# EAGLE library part MAX3491E (library greg-IC)
Maxim MAX3491 RS-485/RS-422 Transceiver Devices in the MAX3483E family (MAX3483E/MAX3485E/ MAX3486E/MAX3488E/MAX3490E/MAX3491E) are ±15kV ESD-protected, +3.3V, low-power transceivers for RS-485 and RS-422 communications. Each device contains one driver and one receiver. The MAX3483E and MAX3488E feature slew-rate-limited drivers that minimize EMI and reduce reflections caused by improperly terminated cables, allowing error-free data transmission at data rates up to 250kbps. The partially slew-rate-limited MAX3486E transmits up to 2.5Mbps. The MAX3485E, MAX3490E, and MAX3491E transmit at up to 12Mbps.
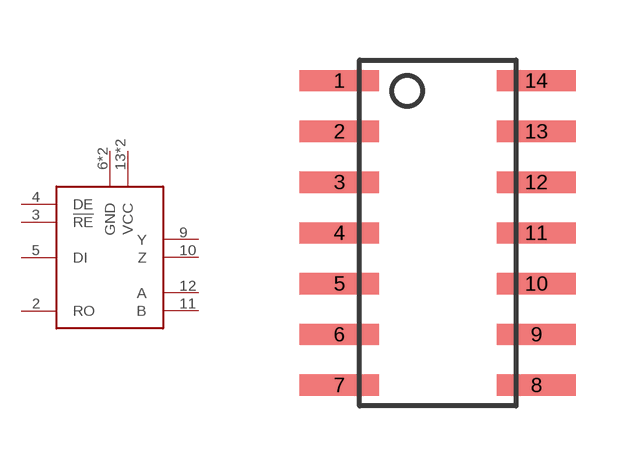
[diagram p15: symbol with the pads of SOIC14; footprint SOIC14]

Designator prefix U

## MAX3491ESD  [SOIC14]
2  RO  out
3  !RE!
4  DE
5  DI  in
6  GND  pwr
7  GND  pwr
9  Y  out
10  Z  out
11  B  in
12  A  in
13  VCC  pwr
14  VCC  pwr

## Footprint SOIC14 (pad centres in mm)
smd 1.981 x 0.533: 1 -2.464,3.81; 2 -2.464,2.54; 3 -2.464,1.27; 4 -2.464,0; 5 -2.464,-1.27; 6 -2.464,-2.54; 7 -2.464,-3.81; 8 2.464,-3.81; 9 2.464,-2.54; 10 2.464,-1.27; 11 2.464,0; 12 2.464,1.27; 13 2.464,2.54; 14 2.464,3.81